# EAGLE library part DX07S024WJ1 (library USBC_LSD)
DX07S024WJ1 - Conector USB-C Hembra para PCB Technical Specifications: Montura superficial 90° (vertical) Digikey: DX07S024WJ1 <https://www.digikey.com/product-detail/en/jae-electronics/DX07S024WJ1R350/670-2949-1-ND/6594045> Datasheet <http://www.jae.com/z-en/pdf_download_exec.cfm?param=MB-0297-3E_0301-2E_DX07.pdf> Drawing <http://www.jae.com/z-en/pdf_download_exec.cfm?param=SJ117219.pdf>
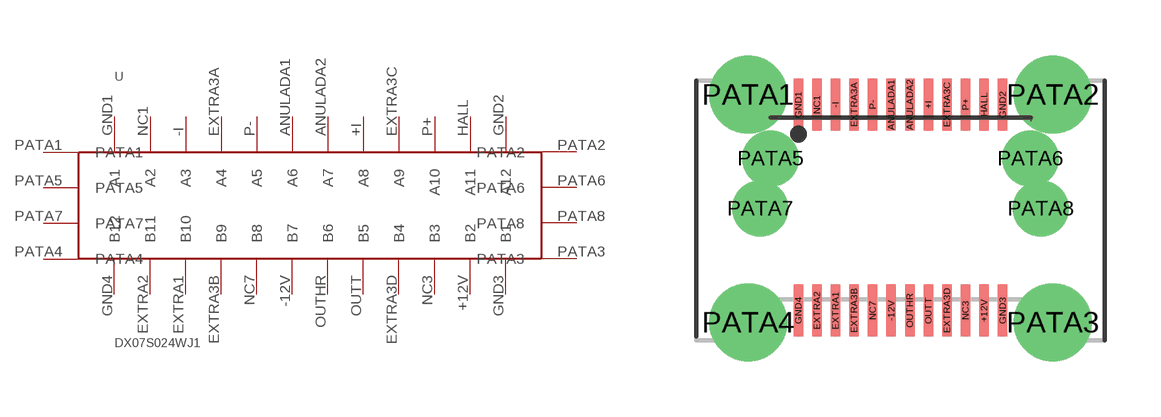
[diagram p0: symbol with the pads of DX07S024WJ1; footprint DX07S024WJ1]

Designator prefix -

## DX07S024WJ1  [DX07S024WJ1]
+12V  B2
+I  A8
-12V  B7
-I  A3
ANULADA1  A6
ANULADA2  A7
EXTRA1  B10
EXTRA2  B11
EXTRA3A  A4
EXTRA3B  B9
EXTRA3C  A9
EXTRA3D  B4
GND1  A1
GND2  A12
GND3  B1
GND4  B12
HALL  A11
NC1  A2
NC3  B3
NC7  B8
OUTHR  B6
OUTT  B5
P+  A10
P-  A5
PATA1  PATA1  pas
PATA2  PATA2  pas
PATA3  PATA3  pas
PATA4  PATA4  pas
PATA5  PATA5  pas
PATA6  PATA6  pas
PATA7  PATA7  pas
PATA8  PATA8  pas

## Footprint DX07S024WJ1 (pad centres in mm)
smd 0.254 x 1.4: +12V 2.25,-2.7; +I 0.75,2.85; -12V -0.25,-2.7; -I -1.75,2.85; ANULADA1 -0.25,2.85; ANULADA2 0.25,2.85; EXTRA1 -1.75,-2.7; EXTRA2 -2.25,-2.7; EXTRA3A -1.25,2.85; EXTRA3B -1.25,-2.7; EXTRA3C 1.25,2.85; EXTRA3D 1.25,-2.7; GND1 -2.75,2.85; GND2 2.75,2.85; GND3 2.75,-2.7; GND4 -2.75,-2.7; HALL 2.25,2.85; NC1 -2.25,2.85; NC3 1.75,-2.7; NC7 -0.75,-2.7; OUTHR 0.25,-2.7; OUTT 0.75,-2.7; P+ 1.75,2.85; P- -0.75,2.85
drill 1.4 pad 1.6: PATA1 -4.1,3.12; PATA2 4.1,3.12; PATA3 4.1,-3.02; PATA4 -4.1,-3.02
drill 1 pad 1.1: PATA5 -3.5,1.4; PATA6 3.5,1.4
drill 1 pad 1.2: PATA7 -3.775,0.05; PATA8 3.775,0.05